# Altium schematic symbol library HJR-4102-L-05V.Schlib: 1 symbol
Pins are listed as number, name and electrical type; pins without a type are passive.

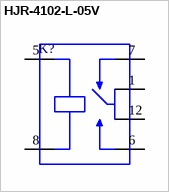
[diagram p0: symbol HJR-4102-L-05V]

## HJR-4102-L-05V
designator K?
Relay
pins: 1 COM, 5 COIL1, 6 NO, 7 NC, 8 COIL2, 12 COM